# Altium schematic symbol library SIM808.SchLib: 9 symbols
Pins are listed as number, name and electrical type; pins without a type are passive.

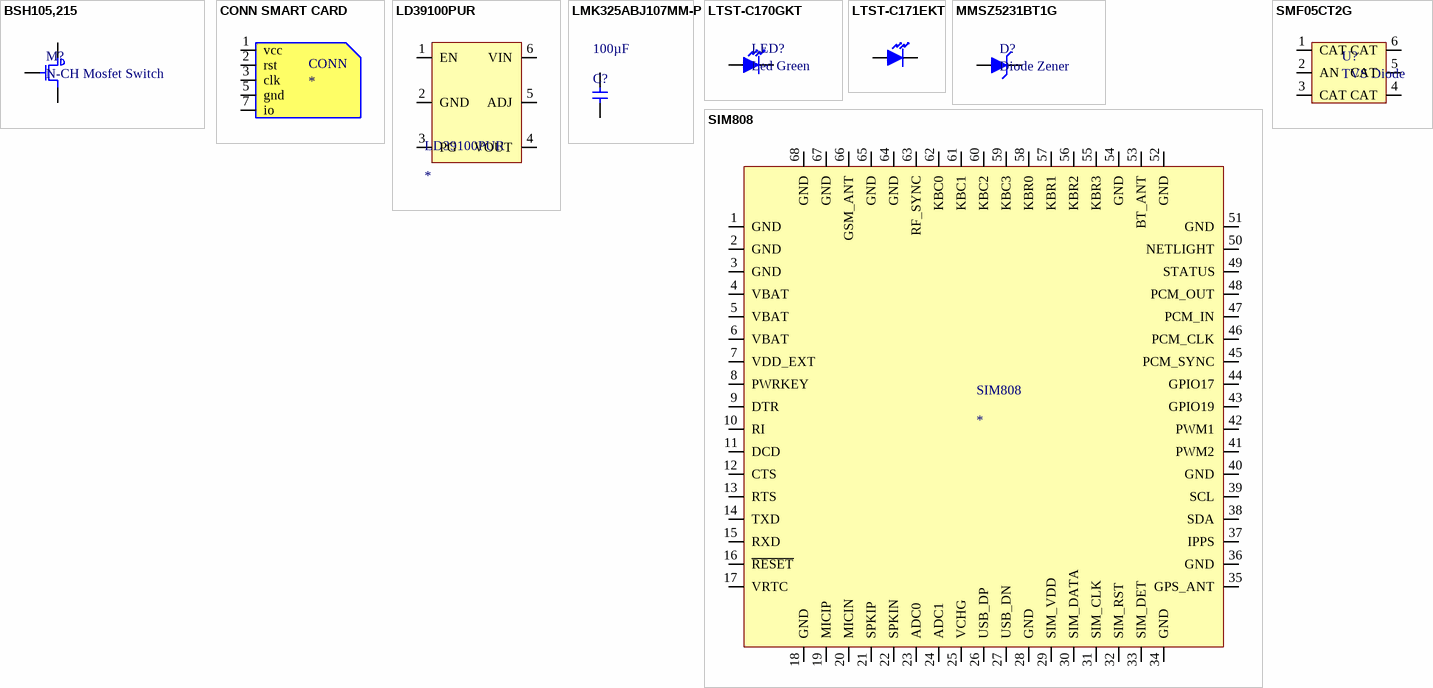
[diagram p0: symbols BSH105,215 to SMF05CT2G]

## BSH105,215
designator M?, comment N-CH Mosfet Switch
MOSFET N-CH 20V 1.05A SOT23; Manufacturer: NXP USA Inc.; Manufacturer Part Number: BSH105,215; FET Type: N-Channel; Current - Continuous Drain (Id) @ 25°C: 1.05A (Ta); Drive Voltage (Max Rds On,  Min Rds On): 1.8V, 4.5V; Vgs(th) (Max) @ Id: 570mV @ 1mA; Gate Charge (Qg) (Max) @ Vgs: 3.9nC @ 4.5V; Input Capacitance (Ciss) (Max) @ Vds: 152pF @ 16V; Vgs (Max): ±8V; Power Dissipation (Max): 417mW (Ta); Rds On (Max) @ Id, Vgs: 200 mOhm @ 600mA, 4.5V; Supplier 1: Digi-Key; Pricing 1: 1=0.53, 10=0.425, 100=0.2902, 500=0.21758, 1000=0.16318 (CAD); Packaging: Cut Tape (CT); Part Status: Active; Technology: MOSFET (Metal Oxide); Drain to Source Voltage (Vdss): 20V; FET Feature: -; Operating Temperature: -55°C ~ 150°C (TJ); Mounting Type: Surface Mount; Supplier Device Package: TO-236AB (SOT23); Package / Case: TO-236-3, SC-59, SOT-23-3; ComponentLink1URL: http://www.nxp.com/documents/data_sheet/BSH105.pdf; ComponentLink1Description: http://www.nxp.com/documents/data_sheet/BSH105.pdf; Supplier Part Number 1: 568-6215-1-ND
footprint SOT32-3 (SOT23, 3-Leads, Body 2.90x2.30mm, Pitch 0.95mm, IPC Medium Density)
pins: 1 G, 2 S, 3 D

## CONN SMART CARD
designator CONN
CONN SMART CARD; Manufacturer: Wurth Electronics Inc; Manufacturer Part Number: 693022010811; Card Type: Micro SIM; Number of Positions: 8; Connector Type: Connector and Ejector; Insertion, Removal Method: Hinged Lid; Supplier 1: Digi-Key; Pricing 1: 1=2.6, 10=2.384, 50=2.2076, 100=2.0317, 500=1.76614 (CAD); Packaging: Cut Tape (CT); Part Status: Active; Ejector Side: -; Mounting Type: Surface Mount, Right Angle; Features: Shielded; Height Above Board: 0.077" (1.95mm); Mounting Feature: Normal, Standard - Top; Contact Finish: Gold; Contact Finish Thickness: -; ComponentLink1URL: http://katalog.we-online.de/em/datasheet/693022010811.pdf; ComponentLink1Description: http://katalog.we-online.de/em/datasheet/693022010811.pdf; Supplier Part Number 1: 732-5957-1-ND
footprint CONN SMART CARD (Micro Sim connector)
pins: 1 vcc, 2 rst, 3 clk, 5 gnd, 7 io

## LD39100PUR
designator LD39100PUR
Adjustable linear voltage regulator; mfr: ST; supplier: http://www.digikey.ca/product-detail/en/stmicroelectronics/LD39100PUR/497-11013-1-ND/2524221
footprint LD39100PUR
pins: 1 EN, 2 GND, 3 PG, 4 VOUT, 5 ADJ, 6 VIN

## LMK325ABJ107MM-P
designator C?, comment Capacitance: 100µF  (hidden comment: Cap Cer 100uF)
CAP CER 100UF 10V X5R 1210; Manufacturer: Taiyo Yuden; Manufacturer Part Number: LMK325ABJ107MM-P; Tolerance: ±20%; Supplier 1: Digi-Key; Pricing 1: 1=1.55, 10=1.231, 25=1.1284, 50=1.0668, 100=0.9231, 250=0.82052, 500=0.69746 (CAD); Packaging: Cut Tape (CT); Part Status: Active; Voltage - Rated: 10V; Temperature Coefficient: X5R; Operating Temperature: -55°C ~ 85°C; Features: -; Ratings: -; Applications: General Purpose; Mounting Type: Surface Mount, MLCC; Package / Case: 1210 (3225 Metric); Size / Dimension: 0.126" L x 0.098" W (3.20mm x 2.50mm); Height - Seated (Max): -; Thickness (Max): 0.110" (2.80mm); Lead Spacing: -; Lead Style: -; ComponentLink1URL: http://ds.yuden.co.jp/TYCOMPAS/ut/detail.do?productNo=LMK325ABJ107MM-P&fileName=LMK325ABJ107MM-P_SS&mode=specSheetDownload; ComponentLink1Description: http://ds.yuden.co.jp/TYCOMPAS/ut/detail.do?productNo=LMK325ABJ107MM-P&fileName=LMK325ABJ107MM-P_SS&mode=specSheetDownload; Supplier Part Number 1: 587-4317-1-ND
footprint Cap 1210 (1210 (3225m))
pins: 1, 2

## LTST-C170GKT
designator LED?, comment Led Green
LED GREEN CLEAR 0805 SMD; Manufacturer: Lite-On Inc.; Manufacturer Part Number: LTST-C170GKT; Lens Color: Colorless; Millicandela Rating: 6mcd; Lens Style/Size: Rectangle with Flat Top, 1.40mm x 1.25mm; Voltage - Forward (Vf) (Typ): 2.1V; Current - Test: 10mA; Viewing Angle: 130°; Wavelength - Dominant: 569nm; Wavelength - Peak: 565nm; Supplier 1: Digi-Key; Pricing 1: 1=0.48, 10=0.351, 25=0.2588, 100=0.1848, 250=0.12564, 500=0.11086, 1000=0.08684 (CAD); Packaging: Cut Tape (CT); Part Status: Active; Color: Green; Lens Transparency: Clear; Mounting Type: Surface Mount; Features: -; Package / Case: 0805 (2012 Metric); Supplier Device Package: -; Size / Dimension: 2.00mm L x 1.25mm W; Height (Max): 1.10mm; ComponentLink1URL: http://media.digikey.com/pdf/Data%20Sheets/Lite-On%20PDFs/LTST-C170GKT.pdf; ComponentLink1Description: http://media.digikey.com/pdf/Data%20Sheets/Lite-On%20PDFs/LTST-C170GKT.pdf; Supplier Part Number 1: 160-1179-1-ND
footprint 0805 LED (0805 SMD LED)
pins: 1, 2

## LTST-C171EKT
designator LED?, comment Led Red  (value not drawn)
LED RED CLEAR 0805 SMD; Manufacturer: Lite-On Inc.; Manufacturer Part Number: LTST-C171EKT; Lens Color: Colorless; Millicandela Rating: 6mcd; Lens Style/Size: Rectangle with Flat Top, 1.40mm x 1.25mm; Voltage - Forward (Vf) (Typ): 2V; Current - Test: 20mA; Viewing Angle: 130°; Wavelength - Dominant: 621nm; Wavelength - Peak: 630nm; Supplier 1: Digi-Key; Pricing 1: 1=0.48, 10=0.351, 25=0.2588, 100=0.1848, 250=0.12564, 500=0.11086, 1000=0.08684 (CAD); Packaging: Cut Tape (CT); Part Status: Active; Color: Red; Lens Transparency: Clear; Mounting Type: Surface Mount; Features: -; Package / Case: 0805 (2012 Metric); Supplier Device Package: Chip LED; Size / Dimension: 2.00mm L x 1.25mm W; Height (Max): 0.80mm; ComponentLink1URL: http://media.digikey.com/pdf/Data%20Sheets/Lite-On%20PDFs/LTST-C171EKT.pdf; ComponentLink1Description: http://media.digikey.com/pdf/Data%20Sheets/Lite-On%20PDFs/LTST-C171EKT.pdf; Supplier Part Number 1: 160-1422-1-ND
footprint 0805 LED (0805 SMD LED)
pins: 1, 2

## MMSZ5231BT1G
designator D?, comment Diode Zener
DIODE ZENER 5.1V 500MW SOD123; Manufacturer: ON Semiconductor; Manufacturer Part Number: MMSZ5231BT1G; Tolerance: ±5%; Impedance (Max) (Zzt): 17 Ohm; Current - Reverse Leakage @ Vr: 5µA @ 2V; Voltage - Forward (Vf) (Max) @ If: 900mV @ 10mA; Supplier 1: Digi-Key; Pricing 1: 1=0.34, 10=0.282, 100=0.149, 500=0.09802, 1000=0.06666 (CAD); Packaging: Cut Tape (CT); Part Status: Active; Voltage - Zener (Nom) (Vz): 5.1V; Power - Max: 500mW; Operating Temperature: -55°C ~ 150°C; Mounting Type: Surface Mount; Package / Case: SOD-123; Supplier Device Package: SOD-123; ComponentLink1URL: http://www.onsemi.com/pub_link/Collateral/MMSZ5221BT1-D.PDF; ComponentLink1Description: http://www.onsemi.com/pub_link/Collateral/MMSZ5221BT1-D.PDF; Supplier Part Number 1: MMSZ5231BT1GOSCT-ND
footprint Diode Zener
pins: 1, 2

## SIM808
designator SIM808
SIM808 GSM + GPRS + GPS Cellular Module; Mfr: SimCom; Supplier: http://www.ebay.ca/itm/291879777454?_trksid=p2057872.m2749.l2649&ssPageName=STRK%3AMEBIDX%3AIT
footprint SIM808
pins: 1 GND, 2 GND, 3 GND, 4 VBAT, 5 VBAT, 6 VBAT, 7 VDD_EXT, 8 PWRKEY, 9 DTR, 10 RI, 11 DCD, 12 CTS, 13 RTS, 14 TXD, 15 RXD, 16 ~{RESET}, 17 VRTC, 18 GND, 19 MICIP, 20 MICIN, 21 SPKIP, 22 SPKIN, 23 ADC0, 24 ADC1, 25 VCHG, 26 USB_DP, 27 USB_DN, 28 GND, 29 SIM_VDD, 30 SIM_DATA, 31 SIM_CLK, 32 SIM_RST, 33 SIM_DET, 34 GND, 35 GPS_ANT, 36 GND, 37 IPPS, 38 SDA, 39 SCL, 40 GND, 41 PWM2, 42 PWM1, 43 GPIO19, 44 GPIO17, 45 PCM_SYNC, 46 PCM_CLK, 47 PCM_IN, 48 PCM_OUT, 49 STATUS, 50 NETLIGHT, 51 GND, 52 GND, 53 BT_ANT, 54 GND, 55 KBR3, 56 KBR2, 57 KBR1, 58 KBR0, 59 KBC3, 60 KBC2, 61 KBC1, 62 KBC0, 63 RF_SYNC, 64 GND, 65 GND, 66 GSM_ANT, 67 GND, 68 GND

## SMF05CT2G
designator U?, comment TVS Diode
TVS DIODE 5VWM 12.5VC SOT363; Manufacturer: ON Semiconductor; Manufacturer Part Number: SMF05CT2G; Unidirectional Channels: 5; Voltage - Reverse Standoff (Typ): 5V (Max); Voltage - Breakdown (Min): 6.2V; Voltage - Clamping (Max) @ Ipp: 12.5V; Current - Peak Pulse (10/1000µs): 8A (8/20µs); Power - Peak Pulse: 100W; Power Line Protection: No; Capacitance @ Frequency: 80pF @ 1MHz; Supplier 1: Digi-Key; Pricing 1: 1=0.53, 10=0.424, 100=0.2891, 500=0.21684, 1000=0.16262 (CAD); Packaging: Cut Tape (CT); Part Status: Active; Type: Zener; Bidirectional Channels: -; Applications: Automotive; Operating Temperature: -40°C ~ 125°C (TJ); Mounting Type: Surface Mount; Package / Case: 6-TSSOP, SC-88, SOT-363; Supplier Device Package: SC-88/SC70-6/SOT-363; ComponentLink1URL: http://www.onsemi.com/pub_link/Collateral/SMF05C-D.PDF; ComponentLink1Description: http://www.onsemi.com/pub_link/Collateral/SMF05C-D.PDF; Supplier Part Number 1: SMF05CT2GOSCT-ND
footprint SMF05CT2G (SOT-363)
pins: 1 CAT, 2 AN, 3 CAT, 4 CAT, 5 CAT, 6 CAT